# EAGLE library part FE20-2 (library Raspberry-T-Cobbler)
FEMALE HEADER
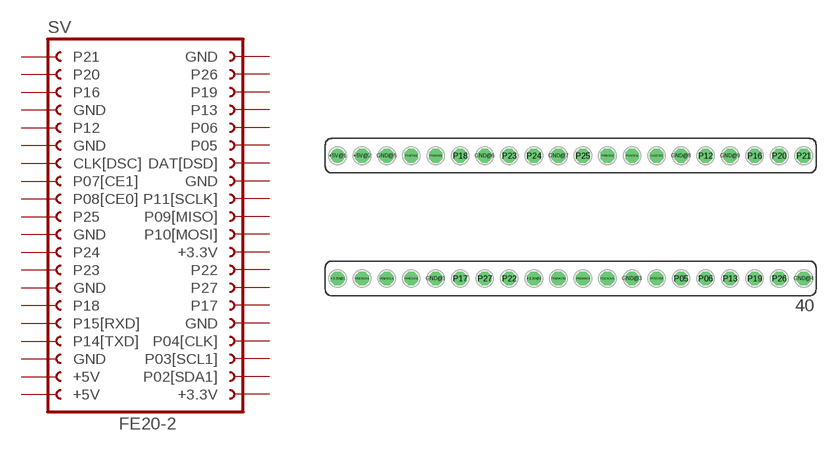
[diagram p0: symbol with the pads of FE20-2; footprint FE20-2]

Designator prefix SV

## FE20-2 (OC_FARNELL: unknown; OC_NEWARK: unknown)  [FE20-2]
+3.3V@1  +3.3V  pas
+3.3V@2  +3.3V  pas
+5V@1  +5V  pas
+5V@2  +5V  pas
CLK[DSC]  CLK[DSC]  pas
DAT[DSD]  DAT[DSD]  pas
GND@1  GND  pas
GND@3  GND  pas
GND@4  GND  pas
GND@5  GND  pas
GND@6  GND  pas
GND@7  GND  pas
GND@8  GND  pas
GND@9  GND  pas
P02[SDA1]  P02[SDA1]  pas
P03[SCL1]  P03[SCL1]  pas
P04[CLK0]  P04[CLK]  pas
P05  P05  pas
P06  P06  pas
P07[CE1]  P07[CE1]  pas
P08[CE0]  P08[CE0]  pas
P09[MISO]  P09[MISO]  pas
P10[MOSI]  P10[MOSI]  pas
P11[SCLK]  P11[SCLK]  pas
P12  P12  pas
P13  P13  pas
P14[TXD]  P14[TXD]  pas
P15[RXD]  P15[RXD]  pas
P16  P16  pas
P17  P17  pas
P18  P18  pas
P19  P19  pas
P20  P20  pas
P21  P21  pas
P22  P22  pas
P23  P23  pas
P24  P24  pas
P25  P25  pas
P26  P26  pas
P27  P27  pas

## Footprint FE20-2 (pad centres in mm)
FEMALE HEADER
drill 0.914 octagon: +3.3V@1 -24.13,-6.35; +3.3V@2 -3.81,-6.35; +5V@2 -21.59,6.35; CLK[DSC] 8.89,6.35; DAT[DSD] 8.89,-6.35; GND@1 -13.97,-6.35; GND@3 6.35,-6.35; GND@4 24.13,-6.35; GND@5 -19.05,6.35; GND@6 -8.89,6.35; GND@7 -1.27,6.35; GND@8 11.43,6.35; GND@9 16.51,6.35; P02[SDA1] -21.59,-6.35; P03[SCL1] -19.05,-6.35; P04[CLK0] -16.51,-6.35; P05 11.43,-6.35; P06 13.97,-6.35; P07[CE1] 6.35,6.35; P08[CE0] 3.81,6.35; P09[MISO] 1.27,-6.35; P10[MOSI] -1.27,-6.35; P11[SCLK] 3.81,-6.35; P12 13.97,6.35; P13 16.51,-6.35; P14[TXD] -16.51,6.35; P15[RXD] -13.97,6.35; P16 19.05,6.35; P17 -11.43,-6.35; P18 -11.43,6.35; P19 19.05,-6.35; P20 21.59,6.35; P21 24.13,6.35; P22 -6.35,-6.35; P23 -6.35,6.35; P24 -3.81,6.35; P25 1.27,6.35; P26 21.59,-6.35; P27 -8.89,-6.35
drill 0.914: +5V@1 -24.13,6.35